# Altium schematic symbol library GENERIC_FUSE_FLOATING.SchLib: 1 symbol
Pins are listed as number, name and electrical type; pins without a type are passive.

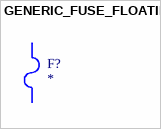
[diagram p0: symbol GENERIC_FUSE_FLOATING]

## GENERIC_FUSE_FLOATING
designator F?  (mechanical)